# EAGLE library part 4PDT_SWITCH (library connectors)
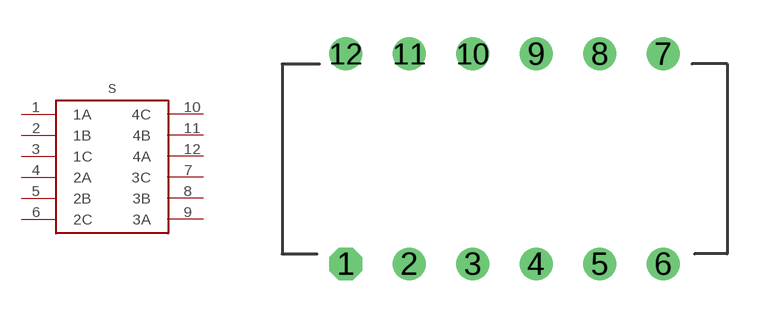
[diagram p2: symbol with the pads of 4PDT_THT; footprint 4PDT_THT]

Designator prefix S

## 4PDT_SWITCH  [4PDT_THT]
1  1A
2  1B
3  1C
4  2A
5  2B
6  2C
7  3C
8  3B
9  3A
10  4C
11  4B
12  4A

## Footprint 4PDT_THT (pad centres in mm)
drill 0.8 octagon: 1 -6.35,-4.2
drill 0.8: 2 -3.81,-4.2; 3 -1.27,-4.2; 4 1.27,-4.2; 5 3.81,-4.2; 6 6.35,-4.2; 7 6.35,4.2; 8 3.81,4.2; 9 1.27,4.2; 10 -1.27,4.2; 11 -3.81,4.2; 12 -6.35,4.2